# Altium schematic symbol library SCH - MCU - STM32 - ST MICROELECTRONICS STM32F410R(8-B)TX LQFP64.SchLib: 1 symbol
Pins are listed as number, name and electrical type; pins without a type are passive.

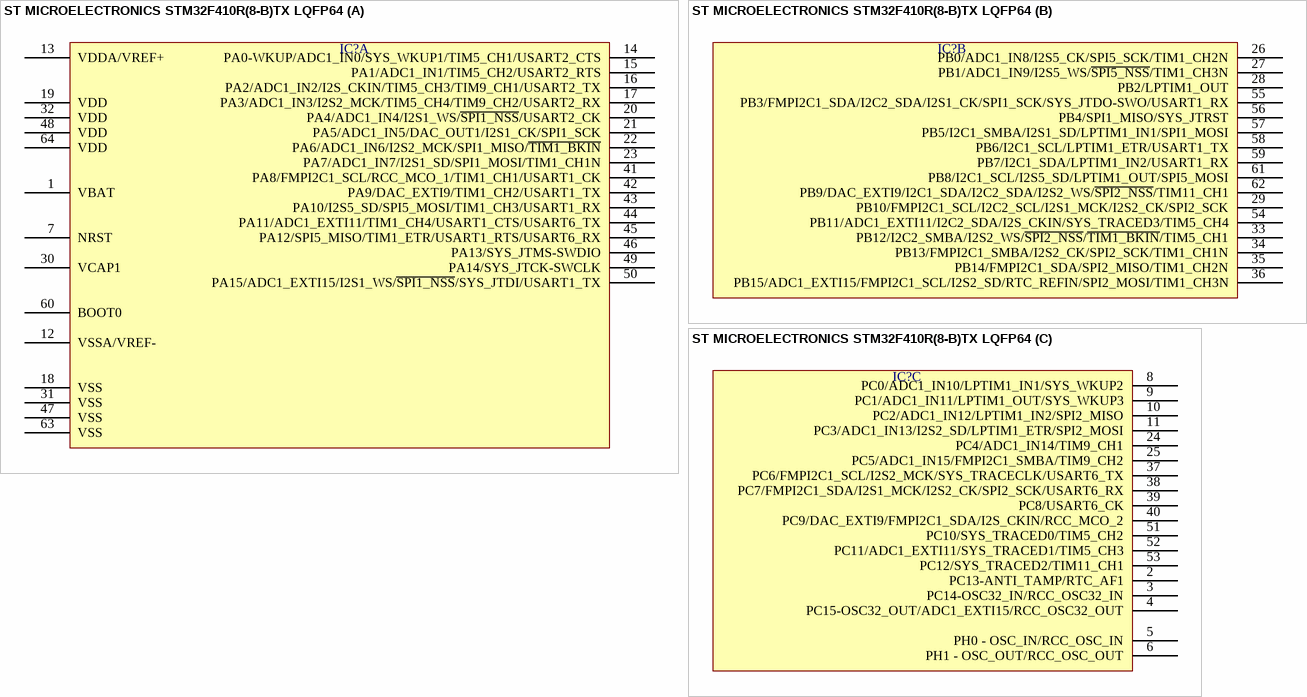
[diagram p0: symbol ST MICROELECTRONICS STM32F410R(8-B)TX LQFP64]

## ST MICROELECTRONICS STM32F410R(8-B)TX LQFP64
designator IC?  (value not drawn)
part A pins: 1 VBAT, 7 NRST, 12 VSSA/VREF-, 13 VDDA/VREF+, 14 PA0-WKUP/ADC1_IN0/SYS_WKUP1/TIM5_CH1/USART2_CTS, 15 PA1/ADC1_IN1/TIM5_CH2/USART2_RTS, 16 PA2/ADC1_IN2/I2S_CKIN/TIM5_CH3/TIM9_CH1/USART2_TX, 17 PA3/ADC1_IN3/I2S2_MCK/TIM5_CH4/TIM9_CH2/USART2_RX, 18 VSS, 19 VDD, 20 PA4/ADC1_IN4/I2S1_WS/~{SPI1_NSS}/USART2_CK, 21 PA5/ADC1_IN5/DAC_OUT1/I2S1_CK/SPI1_SCK, 22 PA6/ADC1_IN6/I2S2_MCK/SPI1_MISO/~{TIM1_BKIN}, 23 PA7/ADC1_IN7/I2S1_SD/SPI1_MOSI/TIM1_CH1N, 30 VCAP1, 31 VSS, 32 VDD, 41 PA8/FMPI2C1_SCL/RCC_MCO_1/TIM1_CH1/USART1_CK, 42 PA9/DAC_EXTI9/TIM1_CH2/USART1_TX, 43 PA10/I2S5_SD/SPI5_MOSI/TIM1_CH3/USART1_RX, 44 PA11/ADC1_EXTI11/TIM1_CH4/USART1_CTS/USART6_TX, 45 PA12/SPI5_MISO/TIM1_ETR/USART1_RTS/USART6_RX, 46 PA13/SYS_JTMS-SWDIO, 47 VSS, 48 VDD, 49 PA14/SYS_JTCK-SWCLK, 50 PA15/ADC1_EXTI15/I2S1_WS/~{SPI1_NSS}/SYS_JTDI/USART1_TX, 60 BOOT0, 63 VSS, 64 VDD
part B pins: 26 PB0/ADC1_IN8/I2S5_CK/SPI5_SCK/TIM1_CH2N, 27 PB1/ADC1_IN9/I2S5_WS/~{SPI5_NSS}/TIM1_CH3N, 28 PB2/LPTIM1_OUT, 29 PB10/FMPI2C1_SCL/I2C2_SCL/I2S1_MCK/I2S2_CK/SPI2_SCK, 33 PB12/I2C2_SMBA/I2S2_WS/~{SPI2_NSS}/~{TIM1_BKIN}/TIM5_CH1, 34 PB13/FMPI2C1_SMBA/I2S2_CK/SPI2_SCK/TIM1_CH1N, 35 PB14/FMPI2C1_SDA/SPI2_MISO/TIM1_CH2N, 36 PB15/ADC1_EXTI15/FMPI2C1_SCL/I2S2_SD/RTC_REFIN/SPI2_MOSI/TIM1_CH3N, 54 PB11/ADC1_EXTI11/I2C2_SDA/I2S_CKIN/SYS_TRACED3/TIM5_CH4, 55 PB3/FMPI2C1_SDA/I2C2_SDA/I2S1_CK/SPI1_SCK/SYS_JTDO-SWO/USART1_RX, 56 PB4/SPI1_MISO/SYS_JTRST, 57 PB5/I2C1_SMBA/I2S1_SD/LPTIM1_IN1/SPI1_MOSI, 58 PB6/I2C1_SCL/LPTIM1_ETR/USART1_TX, 59 PB7/I2C1_SDA/LPTIM1_IN2/USART1_RX, 61 PB8/I2C1_SCL/I2S5_SD/LPTIM1_OUT/SPI5_MOSI, 62 PB9/DAC_EXTI9/I2C1_SDA/I2C2_SDA/I2S2_WS/~{SPI2_NSS}/TIM11_CH1
part C pins: 2 PC13-ANTI_TAMP/RTC_AF1, 3 PC14-OSC32_IN/RCC_OSC32_IN, 4 PC15-OSC32_OUT/ADC1_EXTI15/RCC_OSC32_OUT, 5 PH0 - OSC_IN/RCC_OSC_IN, 6 PH1 - OSC_OUT/RCC_OSC_OUT, 8 PC0/ADC1_IN10/LPTIM1_IN1/SYS_WKUP2, 9 PC1/ADC1_IN11/LPTIM1_OUT/SYS_WKUP3, 10 PC2/ADC1_IN12/LPTIM1_IN2/SPI2_MISO, 11 PC3/ADC1_IN13/I2S2_SD/LPTIM1_ETR/SPI2_MOSI, 24 PC4/ADC1_IN14/TIM9_CH1, 25 PC5/ADC1_IN15/FMPI2C1_SMBA/TIM9_CH2, 37 PC6/FMPI2C1_SCL/I2S2_MCK/SYS_TRACECLK/USART6_TX, 38 PC7/FMPI2C1_SDA/I2S1_MCK/I2S2_CK/SPI2_SCK/USART6_RX, 39 PC8/USART6_CK, 40 PC9/DAC_EXTI9/FMPI2C1_SDA/I2S_CKIN/RCC_MCO_2, 51 PC10/SYS_TRACED0/TIM5_CH2, 52 PC11/ADC1_EXTI11/SYS_TRACED1/TIM5_CH3, 53 PC12/SYS_TRACED2/TIM11_CH1